# EAGLE library part DIRTCHEAPRX-PROG (library dirtcheaprx)
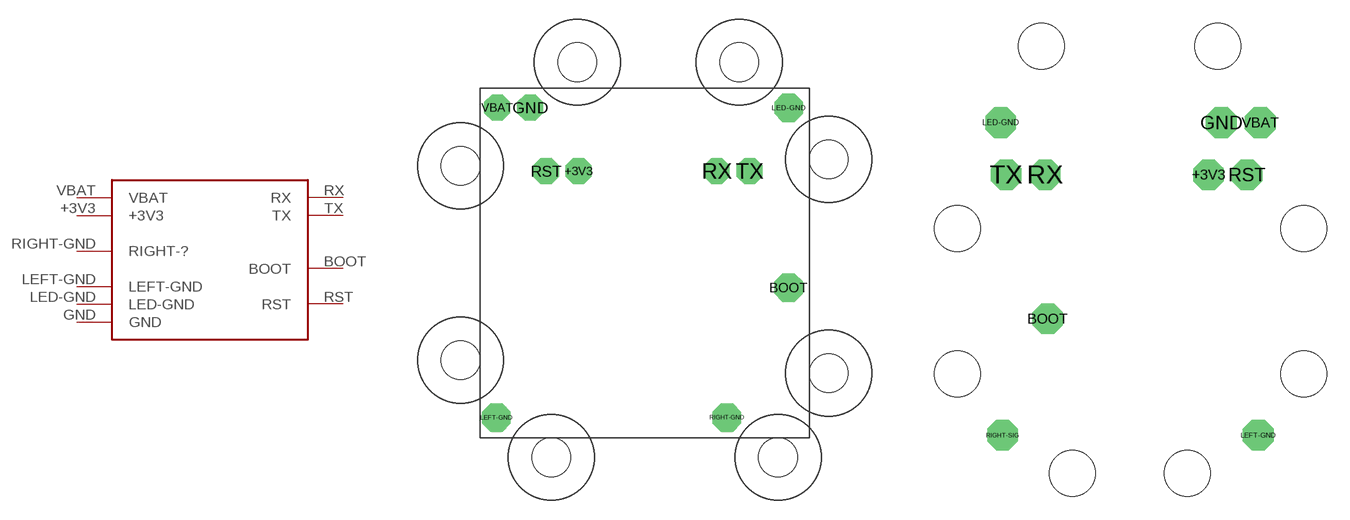
[diagram p6: symbol with the pads of DIRTCHEAPRX_MINI_PROGPINS; footprints DIRTCHEAPRX_MINI_PROGPINS, DIRTCHEAPRX_NANO_PROGPINS]

Designator prefix -

## DIRTCHEAPRX-PROG-MINI  [DIRTCHEAPRX_MINI_PROGPINS]
+3V3  +3V3
BOOT  BOOT
GND  GND
LED-GND  LED-GND
LEFT-GND  LEFT-GND
RIGHT-GND  RIGHT-?
RST  RST
RX  RX
TX  TX
VBAT  VBAT

## DIRTCHEAPRX-PROG-NANO  [DIRTCHEAPRX_NANO_PROGPINS]
+3V3  +3V3
BOOT  BOOT
GND  GND
LED-GND  LED-GND
LEFT-GND  LEFT-GND
RIGHT-SIG  RIGHT-?
RST  RST
RX  RX
TX  TX
VBAT  VBAT

## Footprint DIRTCHEAPRX_MINI_PROGPINS (pad centres in mm)
drill 1.2 pad 2 octagon: +3V3 7.6,20.6; GND 3.87,25.5; RST 5.1,20.6; RX 18.26,20.6; TX 20.8,20.6; VBAT 1.33,25.5
drill 1.2 pad 2.2 octagon: BOOT 23.8,11.6; LED-GND 23.8,25.47; LEFT-GND 1.27,1.57; RIGHT-GND 19.05,1.57
hole 3 at -1.5,21
hole 3 at 7.5,29
hole 3 at 20,29
hole 3 at 26.9,21.5
hole 3 at -1.5,6
hole 3 at 5.5,-1.5
hole 3 at 23,-1.5
hole 3 at 26.9,5

## Footprint DIRTCHEAPRX_NANO_PROGPINS (pad centres in mm)
drill 1.2 pad 2 octagon: +3V3 14.9,18; BOOT 4.4,8.6; GND 15.73,21.4; LED-GND 1.33,21.4; LEFT-GND 18.14,1; RIGHT-SIG 1.46,1; RST 17.4,18; RX 4.24,18; TX 1.7,18; VBAT 18.27,21.4
hole 3 at 6,-1.5
hole 3 at 13.5,-1.5
hole 3 at -1.5,5
hole 3 at 21.1,5
hole 3 at -1.5,14.5
hole 3 at 21.1,14.5
hole 3 at 15.5,26.4
hole 3 at 4,26.4